# Altium schematic symbol library ComponentV1.0.0.SchLib: 1 symbol
Pins are listed as number, name and electrical type; pins without a type are passive.

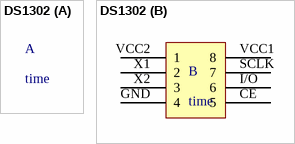
[diagram p0: symbol DS1302]

## DS1302
designator ?, comment time
时钟外设芯片
part B pins: CE 5, GND 4, I/O 6, SCLK 7, VCC1 8, VCC2 1, X1 2, X2 3